# EAGLE library part LIS2DE12TR (library Deegou_IC)
3-Axis Accelerometer 2-16g I2C/SPI LGA12 STMicroelectronics LIS2DE12TR 3-Axis Accelerometer Ic, 1.71 3.6 V 12-Pin LGA Source: Datasheet <http://www.st.com/content/ccc/resource/technical/document/datasheet/group0/72/cb/80/a7/5e/fe/46/9d/DM00153214/files/DM00153214.pdf/jcr:content/translations/en.DM00153214.pdf>
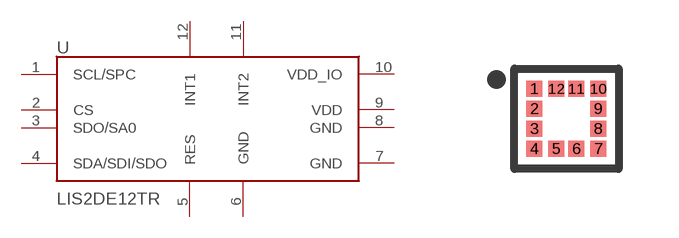
[diagram p170: symbol with the pads of LGA-12; footprint LGA-12]

Designator prefix U

## LIS2DE12TR (DESCRIPTION: 3-Axis Accelerometer 2-16g I2C/SPI LGA12 STMicroelectronics LIS2DE12TR 3-Axis Accelerometer Ic, 1.71 3.6 V 12-Pin LGA; HEIGHT: mm; MANUFACTURER_NAME: STMicroelectronics; MANUFACTURER_PART_NUMBER: LIS2DE12TR; MOUSER_PART_NUMBER: 511-LIS2DE12TR; MOUSER_PRICE-STOCK: https://www.mouser.com/Search/Refine.aspx?Keyword=511-LIS2DE12TR; RS_PART_NUMBER: 1116453P; RS_PRICE-STOCK: http://uk.rs-online.com/web/p/products/1116453P)  [LGA-12]
1  SCL/SPC
2  CS
3  SDO/SA0
4  SDA/SDI/SDO
5  RES
6  GND
7  GND
8  GND
9  VDD
10  VDD_IO
11  INT2
12  INT1

## Footprint LGA-12 (pad centres in mm)
LGA-12
smd 0.4 x 0.4: 1 -0.8,0.75; 2 -0.8,0.25; 3 -0.8,-0.25; 4 -0.8,-0.75; 5 -0.25,-0.75; 6 0.25,-0.75; 7 0.8,-0.75; 8 0.8,-0.25; 9 0.8,0.25; 10 0.8,0.75; 11 0.25,0.75; 12 -0.25,0.75